# Altium schematic symbol library diode.SchLib: 7 symbols
Pins are listed as number, name and electrical type; pins without a type are passive.

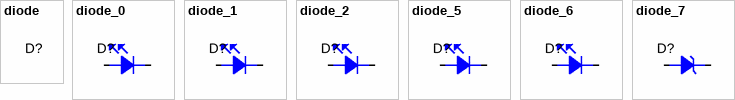
[diagram p0: symbols diode to diode_7]

## diode
designator D?
Template

## diode_0
designator D?, comment LED Red  (value not drawn)
LED 0603 red
footprint LED 0603 red
pins: 1, 2

## diode_1
designator D?, comment LED Green  (value not drawn)
LED 0603 green
footprint LED 0603 green
pins: 1, 2

## diode_2
designator D?, comment LED Blue  (value not drawn)
LED 0603 blue
footprint LED 0603 blue
pins: 1, 2

## diode_5
designator D?, comment LED Yellow  (value not drawn)
LED 0603 yellow
footprint LED 0603 yellow
pins: 1, 2

## diode_6
designator D?, comment LED White  (value not drawn)
LED 0603 white
footprint LED 0603 white
pins: 1, 2

## diode_7
designator D?
Zener,
footprint LED 0603 white
pins: 1, 2